# Altium footprint library Ferrite_beads.PcbLib: 5 footprints
Each footprint in its own frame and in the unit in brackets; x right, y up, seen from the top. Pads: shape width x height; smd on the part's side, far side on the other; paste and mask are expansions set on the pad; w line width, h text height; cw(c..) or ccw(c..) is an arc to the next point about the centre after c.
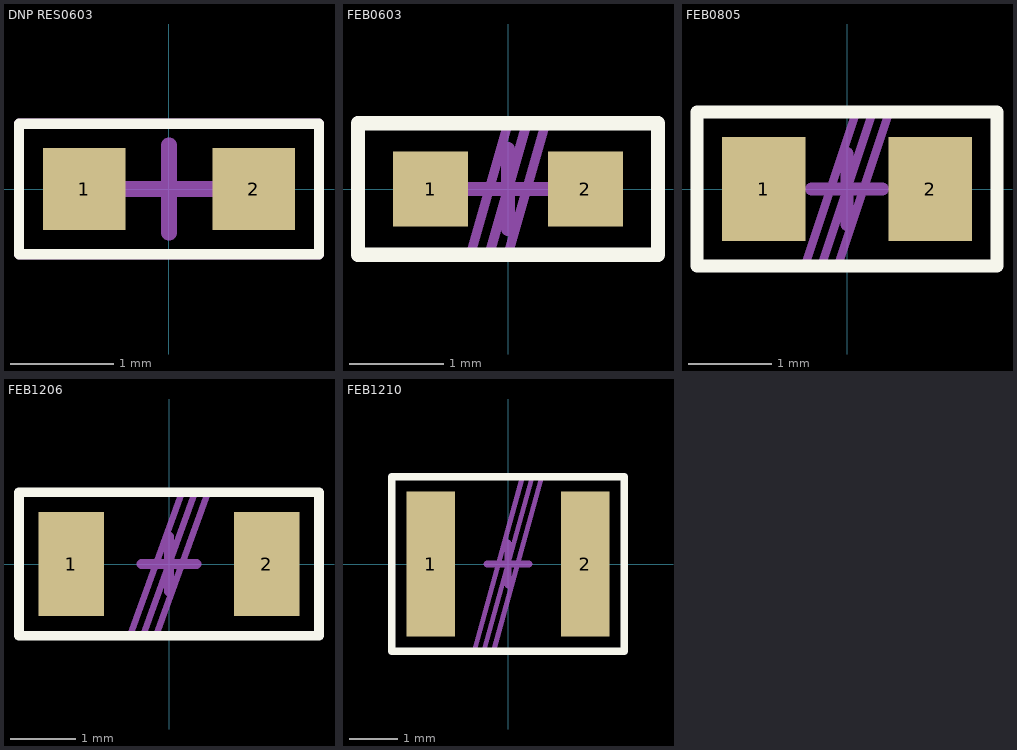
[diagram p0: the footprints below, top view; thin cyan lines are the x and y axes]

## DNP RES0603 [mm]
pads (2):
  rect 0.8x0.8 smd: 1(-0.825,0) 2(0.825,0)
Top Overlay:
  lines w0.1: -1.46,-0.635 1.461,-0.635 1.461,0.635 -1.46,0.635 -1.46,-0.635
Top Assembly:
  lines w0.1: -1.46,-0.635 1.461,-0.635 1.461,0.635 -1.46,0.635 -1.46,-0.635
  text "'.Designator'" at -4.622,-0.23 h0.8
Top Courtyard:
  lines w0.1: -1.46,-0.635 1.461,-0.635 1.461,0.635 -1.46,0.635 -1.46,-0.635
  lines w0.153: -0.425,0 0.425,0 ; 0,-0.425 0,0.425

## FEB0603 [mm]
pads (2):
  rect 0.8x0.8 smd: 1(-0.825,0) 2(0.825,0)
Top Overlay:
  lines w0.153: -1.6,-0.7 1.6,-0.7 1.6,0.7 -1.6,0.7 -1.6,-0.7
Top Assembly:
  lines w0.1: -0.4,-0.7 0,0.7 ; -0.2,-0.7 0.2,0.7 ; 0,-0.7 0.4,0.7 ; -1.6,-0.7 -1.6,0.7 1.6,0.7 1.6,-0.7 -1.6,-0.7
  text "'.Designator'" at -1.322,1.07 h0.8
Top Courtyard:
  lines w0.1: -1.6,-0.7 1.6,-0.7 1.6,0.7 -1.6,0.7 -1.6,-0.7
  lines w0.153: -0.425,0 0.425,0 ; 0,-0.425 0,0.425
3D body "ferrite_bead_0603.STEP": height 0.8, standoff 0, extent -0.8,-0.4 0.8,0.4

## FEB0805 [mm]
pads (2):
  rect 1x1.25 smd: 1(-1,0) 2(1,0)
Top Overlay:
  lines w0.153: -1.8,-0.925 -1.8,0.925 1.8,0.925 1.8,-0.925 -1.8,-0.925
Top Assembly:
  lines w0.1: -0.5,-0.9 0.1,0.9 ; -0.1,-0.9 0.5,0.9 ; -1.8,-0.9 1.8,-0.9 1.8,0.9 -1.8,0.9 -1.8,-0.9 ; -0.3,-0.9 0.3,0.9 -0.3,-0.9
  text "'.Designator'" at -1.647,1.32 h0.8
Top Courtyard:
  lines w0.1: -1.8,-0.9 -1.8,0.9 1.8,0.9 1.8,-0.9 -1.8,-0.9
  lines w0.153: -0.425,0 0.425,0 ; 0,-0.425 0,0.425
3D body "ferrite_bead_0805.STEP": height 0.9, standoff 0, extent -0.975,-0.6 1.025,0.6

## FEB1206 [mm]
pads (2):
  rect 1x1.6 smd: 1(-1.5,0) 2(1.5,0)
Top Overlay:
  lines w0.153: -2.3,-1.1 -2.3,1.1 2.3,1.1 2.3,-1.1 -2.3,-1.1
Top Assembly:
  lines w0.1: -0.6,-1.1 0.2,1.1 ; -0.4,-1.1 0.4,1.1 ; -0.2,-1.1 0.6,1.1 ; -2.3,-1.1 -2.3,1.1 2.3,1.1 2.3,-1.1 -2.3,-1.1
  text "'.Designator'" at -2.147,1.52 h0.8
Top Courtyard:
  lines w0.1: -2.3,-1.1 -2.3,1.1 2.3,1.1 2.3,-1.1 -2.3,-1.1
  lines w0.153: -0.425,0 0.425,0 ; 0,-0.425 0,0.425
3D body "ferrite_bead_1206.STEP": height 1.1, standoff 0, extent -1.625,-0.8 1.575,0.8

## FEB1210 [mm]
pads (2):
  rect 1x3 smd: 1(-1.6,0) 2(1.6,0)
Top Overlay:
  lines w0.153: -2.4,-1.8 -2.4,1.8 2.4,1.8 2.4,-1.8 -2.4,-1.8
Top Assembly:
  lines w0.1: -0.7,-1.8 0.3,1.8 ; -0.5,-1.8 0.5,1.8 ; -0.3,-1.8 0.7,1.8 ; -2.4,-1.8 -2.4,1.8 2.4,1.8 2.4,-1.8 -2.4,-1.8
  text "'.Designator'" at -2.247,2.22 h0.8
Top Courtyard:
  lines w0.1: -2.4,-1.8 -2.4,1.8 2.4,1.8 2.4,-1.8 -2.4,-1.8
  lines w0.153: -0.425,0 0.425,0 ; 0,-0.425 0,0.425
3D body "ferrite_bead_1210-1.STEP": height 2, standoff 0, extent -1.6,-1.25 1.6,1.25